# Altium footprint library PcbLib1.PcbLib: 5 footprints
Each footprint in its own frame and in the unit in brackets; x right, y up, seen from the top. Pads: shape width x height; smd on the part's side, far side on the other; paste and mask are expansions set on the pad; w line width, h text height; cw(c..) or ccw(c..) is an arc to the next point about the centre after c.
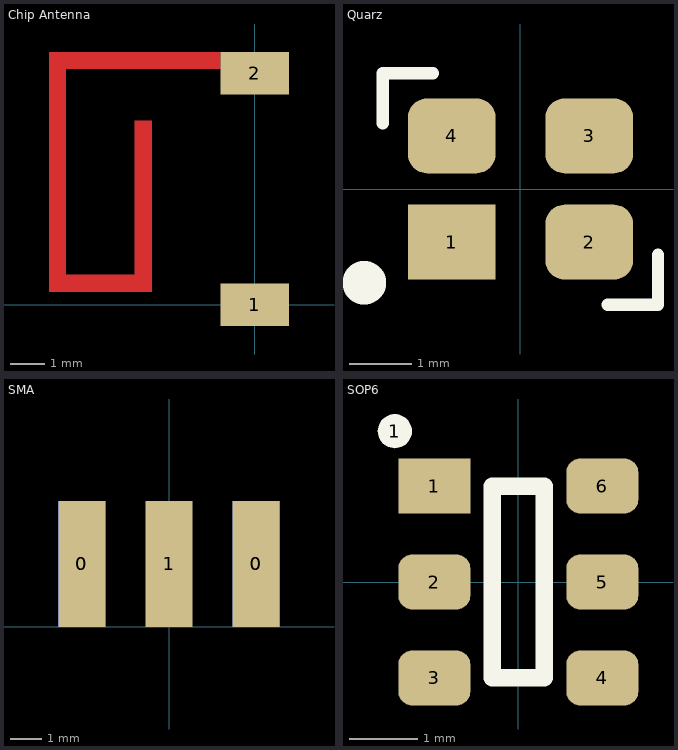
[diagram p0: the footprints below, top view; thin cyan lines are the x and y axes]

## Chip Antenna [mm]
pads (2):
  rect 2x1.25 smd: 1(0,0) 2(0,6.75)
Top Layer:
  region: -1,7.375 -6,7.375 -6,6.875 -1,6.875
  region: -5.5,7.375 -6,7.375 -6,0.375 -5.5,0.375
  region: -3,0.875 -6,0.875 -6,0.375 -3,0.375
  region: -3,5.375 -3.5,5.375 -3.5,0.375 -3,0.375
3D body: height 0.8, standoff 0, extent -1,0 1,7

## PCBComponent_1 [mm]

## Quarz [mm] "3.2x2.5x0.8mm"
pads (4):
  rect 1.4x1.2 smd: 1(-1.1,-0.85)
  rrect50% 1.4x1.2 smd: 2(1.1,-0.85) 3(1.1,0.85) 4(-1.1,0.85)
Top Overlay:
  circle w0.5: c-2.5,-1.5 r0.1
  lines w0.2: -2.2,1.05 -2.2,1.85 -1.4,1.85 ; 1.4,-1.85 2.2,-1.85 2.2,-1.05
3D body: height 0.8, standoff 0, extent -1.6,-1.25 1.6,1.25

## SMA [mm]
pads (5):
  rect 1.5x4 smd: 0(-2.77,2) 0(2.77,2) 1(0,2)
  rect 1.5x4 smd far side: 0(-2.77,2) 0(2.77,2)

## SOP6 [mm]
pads (7):
  round 0.5 on Top Overlay: 1(-1.8,2.2)
  rect 1.05x0.8 smd: 1(-1.225,1.4)
  rrect50% 1.05x0.8 smd: 2(-1.225,0) 3(-1.225,-1.4) 4(1.225,-1.4) 5(1.225,0) 6(1.225,1.4)
Top Overlay:
  lines w0.254: -0.381,-1.397 0.381,-1.397 0.381,1.397 -0.381,1.397 -0.381,-1.397
3D body: height 1.4, standoff 0, extent -1.55,-1.725 1.55,1.725